# Altium schematic symbol library LM317AT_NOPB.SchLib: 1 symbol
Pins are listed as number, name and electrical type; pins without a type are passive.

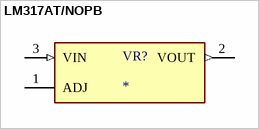
[diagram p0: symbol LM317AT/NOPB]

## LM317AT/NOPB
designator VR?
MP: LM317AT/NOPB; Availability: Unavailable; Value: *; Package: None; Price: None
footprint TO254P1054X470X1955-3
pins: 1 ADJ, 2 VOUT (out), 3 VIN (in)